# Altium footprint library CAPC1608X94N.PcbLib: 1 footprints
Each footprint in its own frame and in the unit in brackets; x right, y up, seen from the top. Pads: shape width x height; smd on the part's side, far side on the other; paste and mask are expansions set on the pad; w line width, h text height; cw(c..) or ccw(c..) is an arc to the next point about the centre after c.
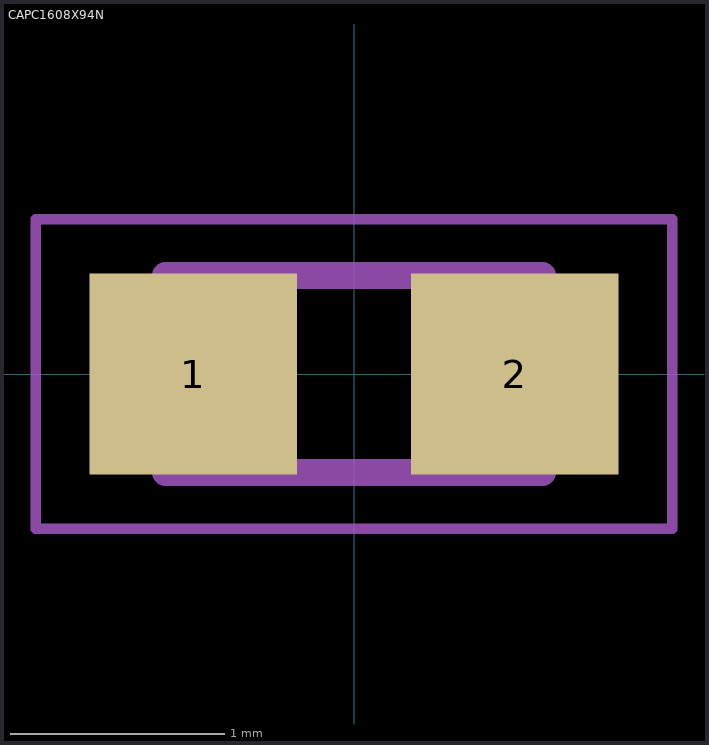
[diagram p0: the footprint, top view; thin cyan lines are the x and y axes]

## CAPC1608X94N [mm]
pads (2):
  rect 0.97x0.94 smd paste+0 mask+0.102: 1(-0.75,0) 2(0.75,0)
Assembly Top:
  lines w0.127: -0.88,-0.46 0.88,-0.46 0.88,0.46 -0.88,0.46 -0.88,-0.46
Courtyard Top:
  lines w0.05: -1.485,-0.722 1.485,-0.722 1.485,0.722 -1.485,0.722 -1.485,-0.722
3D body "step_temp.STEP": height 0.94, standoff 0, extent -0.8,-0.4 0.8,0.4